# EAGLE library part LCD_NOKIA_5110 (library displays)
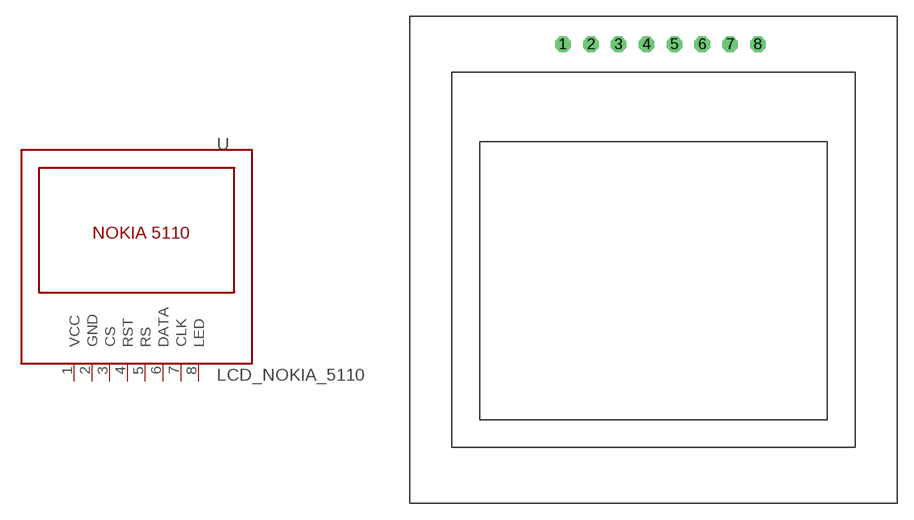
[diagram p7: symbol with the pads of LCD_NOKIA_5110; footprint LCD_NOKIA_5110]

Designator prefix -

## LCD_NOKIA_5110  [LCD_NOKIA_5110]
1  VCC
2  GND
3  CS
4  RST
5  RS
6  DATA
7  CLK
8  LED

## Footprint LCD_NOKIA_5110 (pad centres in mm)
drill 0.7 pad 1.422 octagon: 1 -8.89,19.05; 2 -6.35,19.05; 3 -3.81,19.05; 4 -1.27,19.05; 5 1.27,19.05; 6 3.81,19.05; 7 6.35,19.05; 8 8.89,19.05